# EAGLE library part VEML6030 (library bschulz)
VEML6030 - Ambient Light Sensor with I2C Interface Characteristics: VCC: 2.5~3.6V Operating Temperature: -40°C to 85°C Ambient Light Range: 0 ~ 120,000 Lux Digikey: VEML6030-GS15CT-ND <https://www.digikey.com/product-detail/en/vishay-semiconductor-opto-division/VEML6030-GS15/VEML6030-GS15CT-ND/6221151>
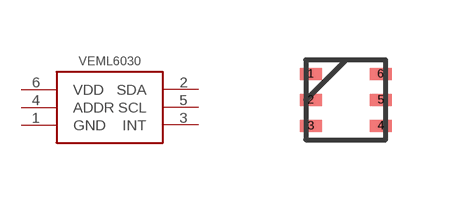
[diagram p42: symbol with the pads of VEML6030; footprint VEML6030]

Designator prefix U

## VEML6030 (DIGIKEY: VEML6030-GS15CT-ND; MF: Vishay; MPN: VEML6030-GS15)  [VEML6030]
1  GND  pwr
2  SDA
3  INT
4  ADDR  in
5  SCL  in
6  VDD  pwr

## Footprint VEML6030 (pad centres in mm)
smd 0.55 x 0.3: 1 -0.875,0.65; 2 -0.875,0; 3 -0.875,-0.65; 4 0.875,-0.65; 5 0.875,0; 6 0.875,0.65